# Altium schematic symbol library mystery-LI.SchLib: 8 symbols
Pins are listed as number, name and electrical type; pins without a type are passive.

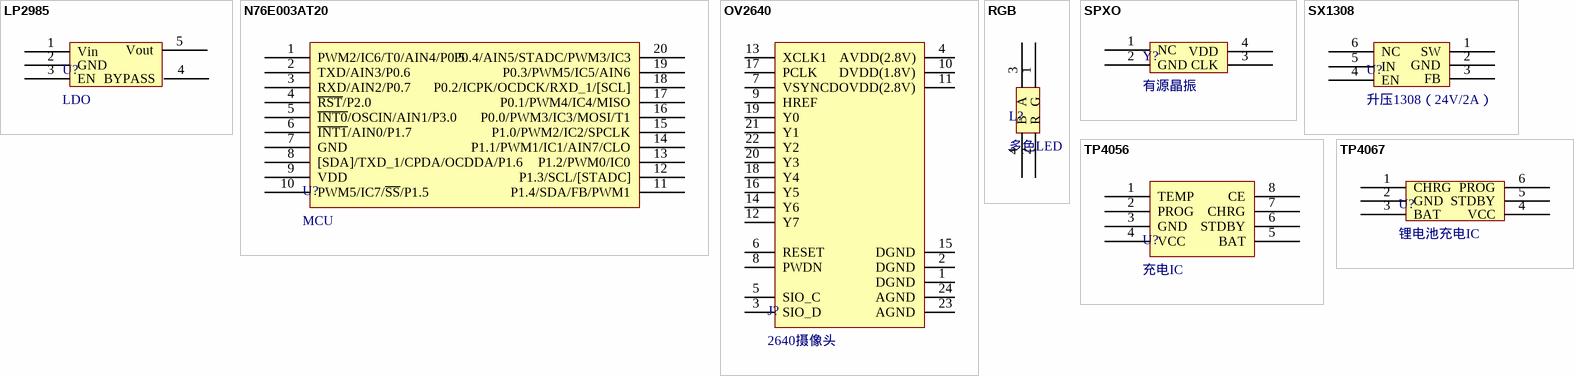
[diagram p0: symbols LP2985 to TP4067]

## LP2985
designator U?, comment LDO
footprint SOT23-5 (Footprint not found)
footprint SOT23-5-LI
pins: 1 Vin, 2 GND, 3 EN, 4 BYPASS, 5 Vout

## N76E003AT20
designator U?, comment MCU
footprint TSSOP20-ljn (类似于STM8S003那种)
pins: 1 PWM2/IC6/T0/AIN4/P0.5, 2 TXD/AIN3/P0.6, 3 RXD/AIN2/P0.7, 4 ~{RST}/P2.0, 5 ~{INT0}/OSCIN/AIN1/P3.0, 6 ~{INT1}/AIN0/P1.7, 7 GND, 8 [SDA]/TXD_1/CPDA/OCDDA/P1.6, 9 VDD, 10 PWM5/IC7/~{SS}/P1.5, 11 P1.4/SDA/FB/PWM1, 12 P1.3/SCL/[STADC], 13 P1.2/PWM0/IC0, 14 P1.1/PWM1/IC1/AIN7/CLO, 15 P1.0/PWM2/IC2/SPCLK, 16 P0.0/PWM3/IC3/MOSI/T1, 17 P0.1/PWM4/IC4/MISO, 18 P0.2/ICPK/OCDCK/RXD_1/[SCL], 19 P0.3/PWM5/IC5/AIN6, 20 P0.4/AIN5/STADC/PWM3/IC3

## OV2640
designator J?, comment 2640摄像头
pins: 1 DGND, 2 DGND, 3 SIO_D, 4 AVDD(2.8V), 5 SIO_C, 6 RESET, 7 VSYNC, 8 PWDN, 9 HREF, 10 DVDD(1.8V), 11 DOVDD(2.8V), 12 Y7, 13 XCLK1, 14 Y6, 15 DGND, 16 Y5, 17 PCLK, 18 Y4, 19 Y0, 20 Y3, 21 Y1, 22 Y2, 23 AGND, 24 AGND

## RGB
designator L?, comment 多色LED
footprint RGBLED (三色LED)
pins: 1 G, 2 R, 3 A, 4 B

## SPXO
designator Y?, comment 有源晶振
footprint 7050-LJN (贴片有源晶振)
pins: 1 NC, 2 GND, 3 CLK, 4 VDD

## SX1308
designator U?, comment 升压1308（24V/2A）
footprint SOT23-6BIG
pins: 1 SW, 2 GND, 3 FB, 4 EN, 5 IN, 6 NC

## TP4056
designator U?, comment 充电IC
footprint SOP8
pins: 1 TEMP, 2 PROG, 3 GND, 4 VCC, 5 BAT, 6 STDBY, 7 CHRG, 8 CE

## TP4067
designator U?, comment 锂电池充电IC
footprint SOT23-6BIG
pins: 1 CHRG, 2 GND, 3 BAT, 4 VCC, 5 STDBY, 6 PROG